# EAGLE library part SIMBLEE (library graftel-internal-ic)
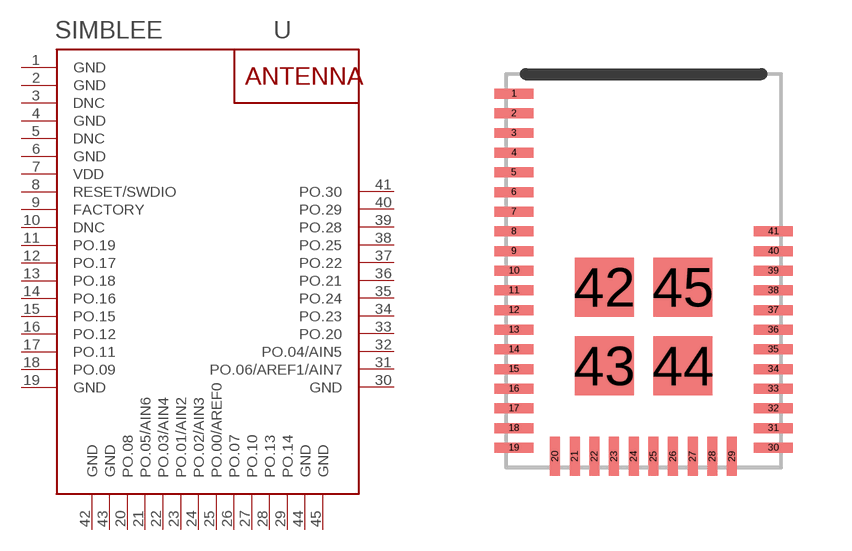
[diagram p3: symbol with the pads of SIMBLEE; footprint SIMBLEE]

Designator prefix U

## SIMBLEE  [SIMBLEE]
1  GND
2  GND
3  DNC
4  GND
5  DNC
6  GND
7  VDD
8  RESET/SWDIO
9  FACTORY
10  DNC
11  PO.19
12  PO.17
13  PO.18
14  PO.16
15  PO.15
16  PO.12
17  PO.11
18  PO.09
19  GND
20  PO.08
21  PO.05/AIN6
22  PO.03/AIN4
23  PO.01/AIN2
24  PO.02/AIN3
25  PO.00/AREF0
26  PO.07
27  PO.10
28  PO.13
29  PO.14
30  GND
31  PO.06/AREF1/AIN7
32  PO.04/AIN5
33  PO.20
34  PO.23
35  PO.24
36  PO.21
37  PO.22
38  PO.25
39  PO.28
40  PO.29
41  PO.30
42  GND
43  GND
44  GND
45  GND

## Footprint SIMBLEE (pad centres in mm)
smd 1 x 0.254: 1 -3.3,4.5; 2 -3.3,4; 3 -3.3,3.5; 4 -3.3,3; 5 -3.3,2.5; 6 -3.3,2; 7 -3.3,1.5; 8 -3.3,1; 9 -3.3,0.5; 10 -3.3,0; 11 -3.3,-0.5; 12 -3.3,-1; 13 -3.3,-1.5; 14 -3.3,-2; 15 -3.3,-2.5; 16 -3.3,-3; 17 -3.3,-3.5; 18 -3.3,-4; 19 -3.3,-4.5; 30 3.3,-4.5; 31 3.3,-4; 32 3.3,-3.5; 33 3.3,-3; 34 3.3,-2.5; 35 3.3,-2; 36 3.3,-1.5; 37 3.3,-1; 38 3.3,-0.5; 39 3.3,0; 40 3.3,0.5; 41 3.3,1
smd 0.254 x 1: 20 -2.25,-4.72; 21 -1.75,-4.72; 22 -1.25,-4.72; 23 -0.75,-4.72; 24 -0.25,-4.72; 25 0.25,-4.72; 26 0.75,-4.72; 27 1.25,-4.72; 28 1.75,-4.72; 29 2.25,-4.72
smd 1.5 x 1.5: 42 -1,-0.42; 43 -1,-2.42; 44 1,-2.42; 45 1,-0.42